# Altium schematic symbol library Schlib1.SchLib: 19 symbols
Pins are listed as number, name and electrical type; pins without a type are passive.

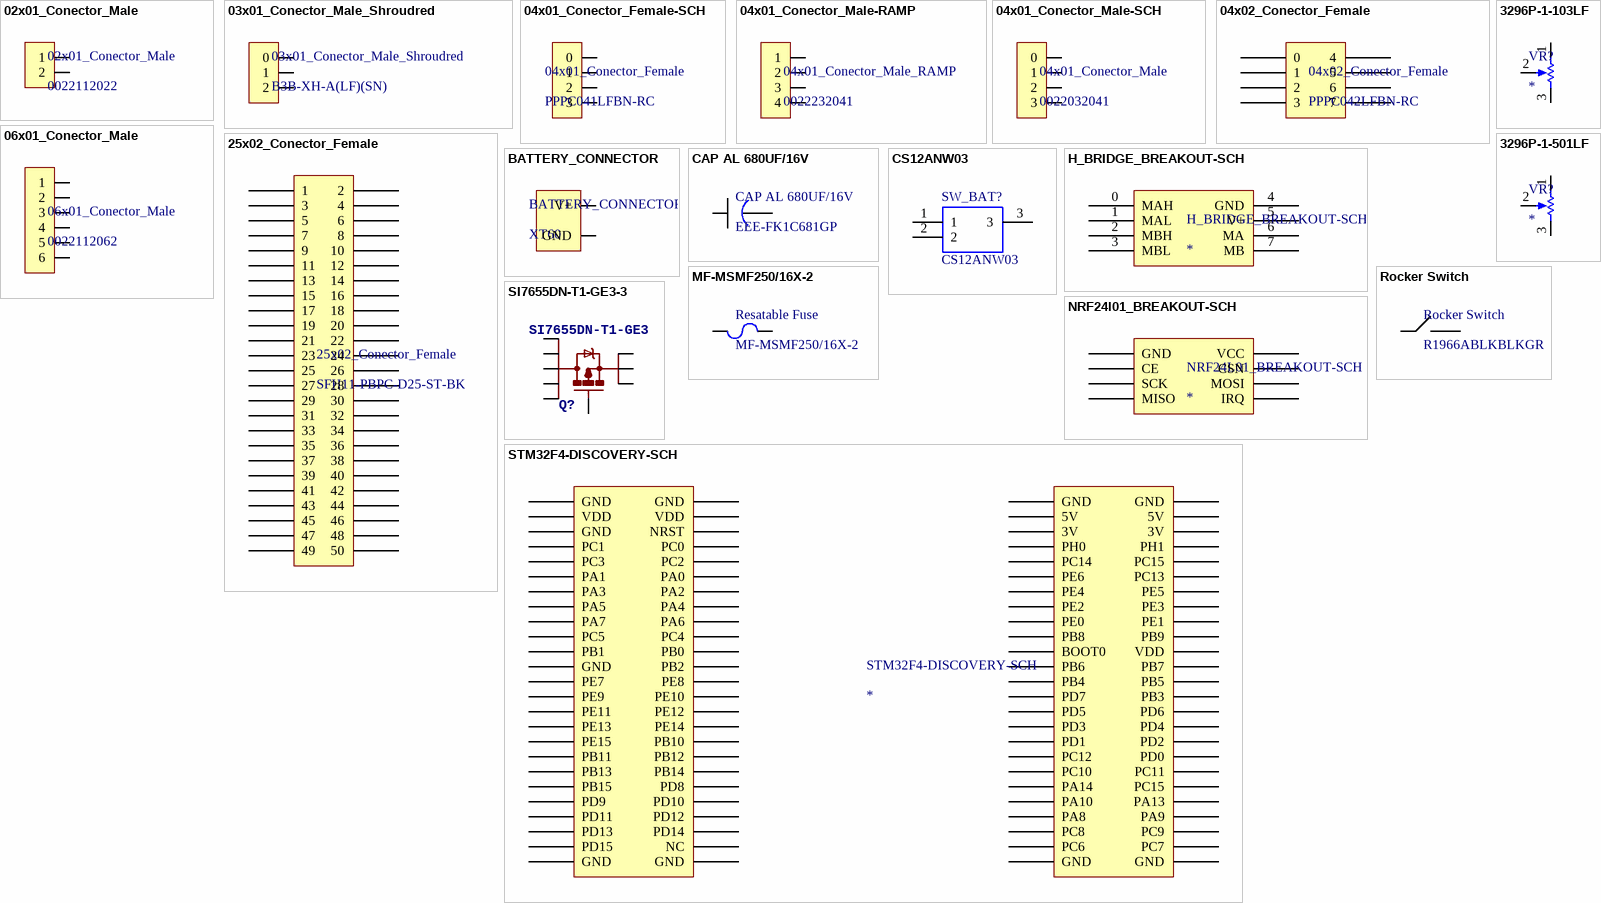
[diagram p0: symbols 02x01_Conector_Male to STM32F4-DISCOVERY-SCH]

## 02x01_Conector_Male
designator 02x01_Conector_Male, comment 0022112022
CONN HEADER 2POS .100 VERT GOLD
footprint 02x01_Conector_Male (0022112022)
pins: 1, 2

## 03x01_Conector_Male_Shroudred
designator 03x01_Conector_Male_Shroudred, comment B3B-XH-A(LF)(SN)
CONN HEADER XH TOP 3POS 2.5MM
footprint 03x01_Conector_Male_Shroudred (2-644861-3)
pins: 0, 1, 2

## 04x01_Conector_Female-SCH
designator 04x01_Conector_Female, comment PPPC041LFBN-RC
4 Position Header Connector 0.100" (2.54mm) Through Hole Gold
footprint 04x01_Conector_Female (0448120004)
pins: 0, 1, 2, 3

## 04x01_Conector_Male-RAMP
designator 04x01_Conector_Male_RAMP, comment 0022232041
CONN HEADER 4POS .100 VERT TIN
footprint 04x01_Conector_Male_RAMP (0022232041)
pins: 1, 2, 3, 4

## 04x01_Conector_Male-SCH
designator 04x01_Conector_Male, comment 0022032041
CONN HEADER 4POS .100 VERT TIN
footprint 04x01_Conector_Male (0022032041)
pins: 0, 1, 2, 3

## 04x02_Conector_Female
designator 04x02_Conector_Female, comment PPPC042LFBN-RC
8 Position Header Connector 0.100" (2.54mm) Through Hole Gold
footprint 04x02_Conector_Female (PPPC042LFBN-RC)
pins: 0, 1, 2, 3, 4, 5, 6, 7

## 06x01_Conector_Male
designator 06x01_Conector_Male, comment 0022112062
CONN HEADER 6POS .100 VERT GOLD
footprint 06x01_Conector_Male (0022112062)
pins: 1, 2, 3, 4, 5, 6

## 25x02_Conector_Female
designator 25x02_Conector_Female, comment SFH11-PBPC-D25-ST-BK
50 Position Header Connector 0.100" (2.54mm) Through Hole Gold
footprint 25x02_Conector_Female (SFH11-PBPC-D25-ST-BK)
pins: 1, 2, 3, 4, 5, 6, 7, 8, 9, 10, 11, 12, 13, 14, 15, 16, 17, 18, 19, 20, 21, 22, 23, 24, 25, 26, 27, 28, 29, 30, 31, 32, 33, 34, 35, 36, 37, 38, 39, 40, 41, 42, 43, 44, 45, 46, 47, 48, 49, 50

## 3296P-1-103LF
designator VR?
Trimmer;  Cermet;  Rest 10 Kilohms;  PCB;  25 Turns;  Pwr-Rtg 0.5W; Manufacturer: Bourns; Manufacturer Part Number: 3296P-1-103LF; Manufacturer Series: 3296; Number of Terminals/Pins: 3; Max Power Dissipation: 500mW; Tolerance: 10%; Resistance: 10kR; Number of Turns: 25; Temperature Coefficient: 100ppm/°C; Resistance Law: Linear; Actuator Orientation: Horizontal; Actuator Type: SCREW; Supplier 1: Digi-Key; RoHS: Yes; Category: Variable Resistors and Potentiometers; Stock 1: 416; Pricing 1: 1=2.41000, 10=2.11700, 25=1.89800, 50=1.82500, 100=1.75200, 250=1.67900, 500=1.38700, 1000=1.31400, 5000=1.09500 (USD); Mount: Through Hole,Panel,PCB; Number of Pins: 3; Weight: 0.03oz; Color: Blue; Terminal Finish: Tin; Min Operating Temperature: -55°C; Max Operating Temperature: 125°C; Package Quantity: 50; Packaging: Rail/Tube; Series: 3296; Power Rating: 500mW; Termination: Pin; Taper: Linear; Resistor Type: Cermet; Technology: CERMET; Resistance Tolerance: 10%; Type: Potentiometer; Length: 9.53mm; Width: 9.53mm; Height: 0.19inch; Depth: 11.55mm; Radiation Hardening: No; Lead Free: Lead Free; RoHS Compliant: Yes; Military Standard: Not; REACH SVHC: No SVHC; ComponentLink1URL: https://datasheet.ciiva.com/19459/1156752-19459714.pdf?src-supplier=Jameco; ComponentLink1Description: https://datasheet.ciiva.com/19459/1156752-19459714.pdf?src-supplier=Jameco; ComponentLink2URL: https://datasheet.ciiva.com/11830/0900766b8069ccf4-11830968.pdf?src-supplier=RSComponents; ComponentLink2Description: https://datasheet.ciiva.com/11830/0900766b8069ccf4-11830968.pdf?src-supplier=RSComponents; ComponentLink3URL: https://datasheet.ciiva.com/29122/447267-da-01-en-trimmer-tht3296p-1-103lf-10k-0-5w-29122348.pdf?src-supplier=Conrad; ComponentLink3Description: https://datasheet.ciiva.com/29122/447267-da-01-en-trimmer-tht3296p-1-103lf-10k-0-5w-29122348.pdf?src-supplier=Conrad; ComponentLink4URL: https://datasheet.ciiva.com/2158/3296-2158320.pdf?src-supplier=Digi-Key; ComponentLink4Description: https://datasheet.ciiva.com/2158/3296-2158320.pdf?src-supplier=Digi-Key; ComponentLink5URL: https://datasheet.ciiva.com/14173/ew3296-dat-e-14173048.pdf?src-supplier=Distrelec; ComponentLink5Description: https://datasheet.ciiva.com/14173/ew3296-dat-e-14173048.pdf?src-supplier=Distrelec; ComponentLink6URL: https://datasheet.ciiva.com/3266/3296-3266181.pdf?src-supplier=Avnet; ComponentLink6Description: https://datasheet.ciiva.com/3266/3296-3266181.pdf?src-supplier=Avnet; ComponentLink7URL: https://datasheet.ciiva.com/1131/1815117-1131225.pdf?src-supplier=Element14; ComponentLink7Description: https://datasheet.ciiva.com/1131/1815117-1131225.pdf?src-supplier=Element14; ComponentLink8URL: https://datasheet.ciiva.com/16714/70153578-16714831.pdf?src-supplier=Allied+Electronics; ComponentLink8Description: https://datasheet.ciiva.com/16714/70153578-16714831.pdf?src-supplier=Allied+Electronics
footprint 3296P (3296P Horizontal trimpot)
pins: 1 CCW, 2 Wiper, 3 CW

## 3296P-1-501LF
designator VR?
Res Cermet Trimmer 500 Ohm 10% 1/2W 25(Elec)Turn 2.19mm (9.53 X 11.55 X 4.83mm) Pin Thru-Hole Tube; Manufacturer: Bourns; Manufacturer Part Number: 3296P-1-501LF; Max Power Dissipation: 500mW; Resistance: 500R; Number of Turns: 25; Temperature Coefficient: 100ppm/°C; Supplier 1: Digi-Key; RoHS: Yes; Category: Variable Resistors and Potentiometers; Stock 1: 1167; Pricing 1: 1=2.58000, 10=2.26400, 25=2.03000, 50=1.95200, 100=1.87400, 250=1.79588, 500=1.48356, 1000=1.40548, 5000=1.17123 (USD); Mount: Panel,Through Hole,PCB; Weight: 0.03oz; Color: Blue; Min Operating Temperature: -55°C; Max Operating Temperature: 125°C; Package Quantity: 50; Packaging: Rail/Tube; Series: 3296; Tolerance: 10%; Power Rating: 500mW; Termination: Pin; Taper: Linear; Resistor Type: Cermet; Technology: CERMET; Resistance Tolerance: 10%; Length: 9.53mm; Width: 9.53mm; Height: 0.19inch; Depth: 11.55mm; Radiation Hardening: No; Lead Free: Lead Free; Military Standard: Not; REACH SVHC: No SVHC; ComponentLink1URL: https://datasheet.ciiva.com/11832/0900766b8069ccf4-11832224.pdf?src-supplier=RSComponents; ComponentLink1Description: https://datasheet.ciiva.com/11832/0900766b8069ccf4-11832224.pdf?src-supplier=RSComponents; ComponentLink2URL: https://datasheet.ciiva.com/1131/684085-1131232.pdf?src-supplier=Element14; ComponentLink2Description: https://datasheet.ciiva.com/1131/684085-1131232.pdf?src-supplier=Element14; ComponentLink3URL: https://datasheet.ciiva.com/29122/447272-da-01-en-trimmer-tht3296p-1-501lf-500-r-0-5w-29122358.pdf?src-supplier=Conrad; ComponentLink3Description: https://datasheet.ciiva.com/29122/447272-da-01-en-trimmer-tht3296p-1-501lf-500-r-0-5w-29122358.pdf?src-supplier=Conrad; ComponentLink4URL: https://datasheet.ciiva.com/2158/3296-2158318.pdf?src-supplier=Digi-Key; ComponentLink4Description: https://datasheet.ciiva.com/2158/3296-2158318.pdf?src-supplier=Digi-Key; ComponentLink5URL: https://datasheet.ciiva.com/3266/3296-3266511.pdf?src-supplier=Avnet; ComponentLink5Description: https://datasheet.ciiva.com/3266/3296-3266511.pdf?src-supplier=Avnet; ComponentLink6URL: https://datasheet.ciiva.com/16715/70153578-16715738.pdf?src-supplier=Allied+Electronics; ComponentLink6Description: https://datasheet.ciiva.com/16715/70153578-16715738.pdf?src-supplier=Allied+Electronics; ComponentLink7URL: https://datasheet.ciiva.com/30076/3296-30076157.pdf?src-supplier=Onlinecomponents.com; ComponentLink7Description: https://datasheet.ciiva.com/30076/3296-30076157.pdf?src-supplier=Onlinecomponents.com; ComponentLink8URL: https://datasheet.ciiva.com/15156/getdatasheetpartid-171371-15156762.pdf?src-supplier=Verical; ComponentLink8Description: https://datasheet.ciiva.com/15156/getdatasheetpartid-171371-15156762.pdf?src-supplier=Verical; ComponentLink9URL: https://datasheet.ciiva.com/16807/3296-16807529.pdf?src-supplier=Avnet+Europe; ComponentLink9Description: https://datasheet.ciiva.com/16807/3296-16807529.pdf?src-supplier=Avnet+Europe
footprint 3296P (3296P Horizontal trimpot)
pins: 1 CCW, 2 Wiper, 3 CW

## BATTERY_CONNECTOR
designator BATTERY_CONNECTOR, comment XT60
XT60 PRT-10474
footprint BATTERY_CONECTO-PCB
pins: 0 V+, 1 GND

## CAP AL 680UF/16V
designator CAP AL 680UF/16V, comment EEE-FK1C681GP
Aluminum Electrolytic Capacitors - SMD Al Lytic Cap SMT FK Series 105C
footprint H_BRIDGE_BREAKOUT
footprint EEE-FK1C681GP (Aluminum Electrolytic Capacitor, Body 10,30x10,30x10,50mm, IPC Low Density)
pins: 1, 2

## CS12ANW03
designator SW_BAT?
NKK SWITCHES - CS12ANW03 - SWITCH, SLIDE, SPDT, 3A, 250V, TH; Allied_Number: 70228233; Manufacturer_Name: NKK Switches; Manufacturer_Part_Number: CS12ANW03; RS Part Number: 1251847; RS Price/Stock: http://uk.rs-online.com/web/p/products/1251847; Allied Price/Stock: https://www.alliedelec.com/nkk-switches-cs12anw03/70228233/; Arrow Part Number: CS12ANW03; Arrow Price/Stock: https://www.arrow.com/en/products/cs12anw03/nkk-switches; Datasheet Link: http://www.nkkswitches.com/pdf/cs.pdf
footprint CS12ANW03
pins: 1, 2, 3

## H_BRIDGE_BREAKOUT-SCH
designator H_BRIDGE_BREAKOUT-SCH
footprint H_BRIDGE_BREAKOUT
pins: 0 MAH, 1 MAL, 2 MBH, 3 MBL, 4 GND, 5 V+, 6 MA, 7 MB

## MF-MSMF250/16X-2
designator Resatable Fuse
PTC RESETTABLE
footprint MF-MSMF250/16X-PCB (Chip PTC RESETTABLE)
pins: 1, 2

## NRF24l01_BREAKOUT-SCH
designator NRF24L01_BREAKOUT-SCH
footprint NRF24L01_BREAKOUT-PCB
pins: 1 GND, 2 VCC, 3 CE, 4 CSN, 5 SCK, 6 MOSI, 7 MISO, 8 IRQ

## Rocker Switch
designator Rocker Switch, comment R1966ABLKBLKGR
SWITCH ROCKER SPST 15A 125V
footprint R1966AB-PCB (SWITCH ROCKER SPST 15A 125V)
pins: 0, 1

## SI7655DN-T1-GE3-3
designator Q?, comment SI7655DN-T1-GE3
MOSFET P-CH 20V D-S PPAK 1212; Cod EMS: 05.284.001.520; Part No: SI7655DN-T1-GE3
footprint SON8
pins: 1 S, 2 S, 3 S, 4 G, 5 D, 6 D, 7 D, 8 D, 9 D

## STM32F4-DISCOVERY-SCH
designator STM32F4-DISCOVERY-SCH
footprint STM32F4-DISCOVERY-PCB
pins: P1_1 GND, P1_2 GND, P1_3 VDD, P1_5 GND, P1_6 NRST, P1_7 PC1, P1_8 PC0, P1_9 PC3, P1_10 PC2, P1_11 PA1, P1_12 PA0, P1_13 PA3, P1_14 PA2, P1_15 PA5, P1_16 PA4, P1_17 PA7, P1_18 PA6, P1_19 PC5, P1_20 PC4, P1_21 PB1, P1_22 PB0, P1_23 GND, P1_24 PB2, P1_24 PB7, P1_25 PE7, P1_26 PE8, P1_27 PE9, P1_28 PE10, P1_29 PE11, P1_30 PE12, P1_31 PE13, P1_32 PE14, P1_32 PD2, P1_33 PE15, P1_34 PB10, P1_35 PB11, P1_36 PB12, P1_37 PB13, P1_38 PB14, P1_39 PB15, P1_40 PD8, P1_41 PD9, P1_42 PD10, P1_43 PD11, P1_44 PD12, P1_45 PD13, P1_46 PD14, P1_47 PD15, P1_48 NC, P1_49 GND, P1_50 GND, P2_1 GND, P2_2 GND, P2_3 5V, P2_4 VDD, P2_4 5V, P2_5 3V, P2_6 3V, P2_7 PH0, P2_8 PH1, P2_9 PC14, P2_10 PC15, P2_11 PE6, P2_12 PC13, P2_13 PE4, P2_14 PE5, P2_15 PE2, P2_16 PE3, P2_17 PE0, P2_18 PE1, P2_19 PB8, P2_20 PB9, P2_21 BOOT0, P2_22 VDD, P2_23 PB6, P2_25 PB4, P2_26 PB5, P2_27 PD7, P2_28 PB3, P2_29 PD5, P2_30 PD6, P2_31 PD3, P2_32 PD4, P2_33 PD1, P2_35 PC12, P2_36 PD0, P2_37 PC10, P2_38 PC11, P2_39 PA14, P2_40 PC15, P2_41 PA10, P2_42 PA13, P2_43 PA8, P2_44 PA9, P2_45 PC8, P2_46 PC9, P2_47 PC6, P2_48 PC7, P2_49 GND, P2_50 GND